# Altium schematic symbol library ESR10EZPJ222.SchLib: 1 symbol
Pins are listed as number, name and electrical type; pins without a type are passive.

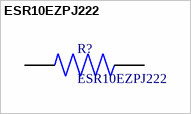
[diagram p0: symbol ESR10EZPJ222]

## ESR10EZPJ222
designator R?
2.2 kOhms Â±5% 0.4W, 2/5W Chip Resistor 0805 (2012 Metric) Automotive AEC-Q200, Pulse Withstanding Thick Film; MF: Rohm; MP: ESR10EZPJ222; Value: *; Purchase-URL: https://pricing.snapeda.com/search/part/ESR10EZPJ222/?ref=eda; Package: 2012 Rohm Semiconductor; Check_prices: https://www.snapeda.com/parts/ESR10EZPJ222/Rohm/view-part/977759/?ref=eda; Digi-Key_Part_Number: RHM2.2KKCT-ND; SnapEDA_Link: https://www.snapeda.com/parts/ESR10EZPJ222/Rohm/view-part/977759/?ref=snap
footprint RESC2012X65N
pins: 1, 1, 2, 2